# Altium schematic symbol library LibSanhaço2017.SchLib: 2 symbols
Pins are listed as number, name and electrical type; pins without a type are passive.

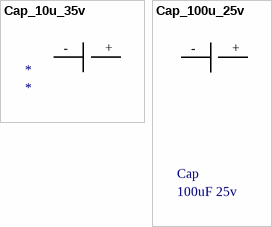
[diagram p0: symbols Cap_10u_35v to Cap_100u_25v]

## Cap_10u_35v
designator *
pins: +, -

## Cap_100u_25v
designator Cap, comment 100uF 25v
Cap Tântalo
footprint CAP_100u_25v_Tantalum (Molded Capacitor, 2-Leads, Body 3,20x1,60mm, IPC Medium Density)
pins: +, -